# Altium integrated library Dallas Peripheral Programmable Switch.IntLib: 6 symbols
Pins are listed as number, name and electrical type; pins without a type are passive.

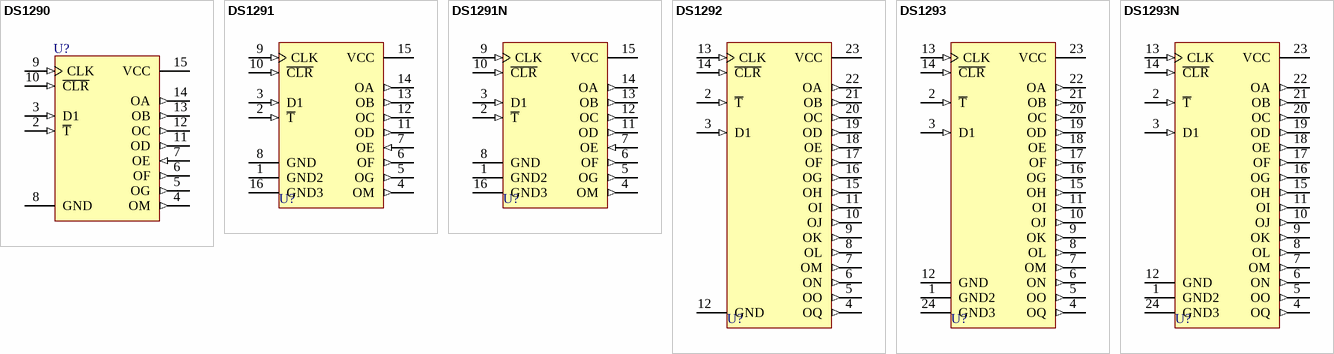
[diagram p0: symbols DS1290 to DS1293N]

## DS1290
designator U?
Eliminator; Note: Pin numbers 1 and 16 are Not Connected (NC); Published: 13-Oct-2000; LatestRevisionDate: 17-Jul-2002; LatestRevisionNote: Re-released for DXP Platform.; DatasheetVersion: 26-Feb-1998; PackageReference: ENDIP16; Publisher: Altium Limited; PackageDescription: DIP; 16 Rectangular pins (2 Absent); Row Space 9.015 mm; Pitch 2.54 mm; ComponentLink1Description: Manufacturer Link; ComponentLink1URL: http://www.maxim-ic.com/
footprint ENDIP16 (DIP; 16 Rectangular pins (2 Absent); Row Space 9.015 mm; Pitch 2.54 mm)
pins: 2 ~{T} (in), 3 D1 (in), 4 OM (out), 5 OG (out), 6 OF (out), 7 OE (in), 8 GND (power), 9 CLK (in), 10 ~{CLR} (in), 11 OD (out), 12 OC (out), 13 OB (out), 14 OA (out), 15 VCC (power)

## DS1291
designator U?
Eliminator; Published: 13-Oct-2000; LatestRevisionDate: 06-Jun-2005; LatestRevisionNote: Stylized 3D Model Added.; DatasheetVersion: 26-Feb-1998; PackageVersion: 1999; PackageReference: DIP16; Publisher: Altium Limited; PackageDescription: DIP; 16 Leads; Row Spacing 7.62 mm; Pitch 2.54 mm; ComponentLink1Description: Manufacturer Link; ComponentLink1URL: http://www.maxim-ic.com/
footprint DIP16 (DIP; 16 Leads; Row Spacing 7.62 mm; Pitch 2.54 mm)
3D model DIP16 (DIP; 16 Leads; Row Spacing 7.62 mm; Pitch 2.54 mm)
pins: 1 GND2 (power), 2 ~{T} (in), 3 D1 (in), 4 OM (out), 5 OG (out), 6 OF (out), 7 OE (in), 8 GND (power), 9 CLK (in), 10 ~{CLR} (in), 11 OD (out), 12 OC (out), 13 OB (out), 14 OA (out), 15 VCC (power), 16 GND3 (power)

## DS1291N
designator U?
Eliminator; Published: 13-Oct-2000; LatestRevisionDate: 06-Jun-2005; LatestRevisionNote: Stylized 3D Model Added.; DatasheetVersion: 14-Feb-1992; PackageVersion: 1999; PackageReference: DIP16; Publisher: Altium Limited; PackageDescription: DIP; 16 Leads; Row Spacing 7.62 mm; Pitch 2.54 mm; ComponentLink1Description: Manufacturer Link; ComponentLink1URL: http://www.maxim-ic.com/
footprint DIP16 (DIP; 16 Leads; Row Spacing 7.62 mm; Pitch 2.54 mm)
3D model DIP16 (DIP; 16 Leads; Row Spacing 7.62 mm; Pitch 2.54 mm)
pins: 1 GND2 (power), 2 ~{T} (in), 3 D1 (in), 4 OM (out), 5 OG (out), 6 OF (out), 7 OE (in), 8 GND (power), 9 CLK (in), 10 ~{CLR} (in), 11 OD (out), 12 OC (out), 13 OB (out), 14 OA (out), 15 VCC (power), 16 GND3 (power)

## DS1292
designator U?
Eliminator; Note: Pin numbers 1 and 24 are Not Connected (NC); Published: 13-Oct-2000; LatestRevisionDate: 17-Jul-2002; LatestRevisionNote: Re-released for DXP Platform.; DatasheetVersion: 26-Feb-1998; PackageReference: ENDIP24B; Publisher: Altium Limited; PackageDescription: DIP; 24 Rectangular pins (2 Absent); Row Space 9.015 mm; Pitch 2.54 mm; ComponentLink1Description: Manufacturer Link; ComponentLink1URL: http://www.maxim-ic.com/
footprint ENDIP24B (DIP; 24 Rectangular pins (2 Absent); Row Space 9.015 mm; Pitch 2.54 mm)
pins: 2 ~{T} (in), 3 D1 (in), 4 OQ (out), 5 OO (out), 6 ON (out), 7 OM (out), 8 OL (out), 9 OK (out), 10 OJ (out), 11 OI (out), 12 GND (power), 13 CLK (in), 14 ~{CLR} (in), 15 OH (out), 16 OG (out), 17 OF (out), 18 OE (out), 19 OD (out), 20 OC (out), 21 OB (out), 22 OA (out), 23 VCC (power)

## DS1293
designator U?
Eliminator; Published: 13-Oct-2000; LatestRevisionDate: 06-Jun-2005; LatestRevisionNote: Stylized 3D Model Added.; DatasheetVersion: 26-Feb-1998; PackageVersion: 1999; PackageReference: DIP24N; Publisher: Altium Limited; PackageDescription: DIP; 24 Leads; Row Spacing 7.62 mm; Pitch 2.54 mm; Code_JEDEC: MS-001-AF; ComponentLink1Description: Manufacturer Link; ComponentLink1URL: http://www.maxim-ic.com/
footprint DIP24N (DIP; 24 Leads; Row Spacing 7.62 mm; Pitch 2.54 mm)
3D model DIP24N (DIP; 24 Leads; Row Spacing 7.62 mm; Pitch 2.54 mm)
pins: 1 GND2 (power), 2 ~{T} (in), 3 D1 (in), 4 OQ (out), 5 OO (out), 6 ON (out), 7 OM (out), 8 OL (out), 9 OK (out), 10 OJ (out), 11 OI (out), 12 GND (power), 13 CLK (in), 14 ~{CLR} (in), 15 OH (out), 16 OG (out), 17 OF (out), 18 OE (out), 19 OD (out), 20 OC (out), 21 OB (out), 22 OA (out), 23 VCC (power), 24 GND3 (power)

## DS1293N
designator U?
Eliminator; Published: 13-Oct-2000; LatestRevisionDate: 06-Jun-2005; LatestRevisionNote: Stylized 3D Model Added.; DatasheetVersion: 14-Feb-1992; PackageVersion: 1999; PackageReference: DIP24N; Publisher: Altium Limited; PackageDescription: DIP; 24 Leads; Row Spacing 7.62 mm; Pitch 2.54 mm; Code_JEDEC: MS-001-AF; ComponentLink1Description: Manufacturer Link; ComponentLink1URL: http://www.maxim-ic.com/
footprint DIP24N (DIP; 24 Leads; Row Spacing 7.62 mm; Pitch 2.54 mm)
3D model DIP24N (DIP; 24 Leads; Row Spacing 7.62 mm; Pitch 2.54 mm)
pins: 1 GND2 (power), 2 ~{T} (in), 3 D1 (in), 4 OQ (out), 5 OO (out), 6 ON (out), 7 OM (out), 8 OL (out), 9 OK (out), 10 OJ (out), 11 OI (out), 12 GND (power), 13 CLK (in), 14 ~{CLR} (in), 15 OH (out), 16 OG (out), 17 OF (out), 18 OE (out), 19 OD (out), 20 OC (out), 21 OB (out), 22 OA (out), 23 VCC (power), 24 GND3 (power)